# EAGLE library part 4X7SEGMENT (library Custom)
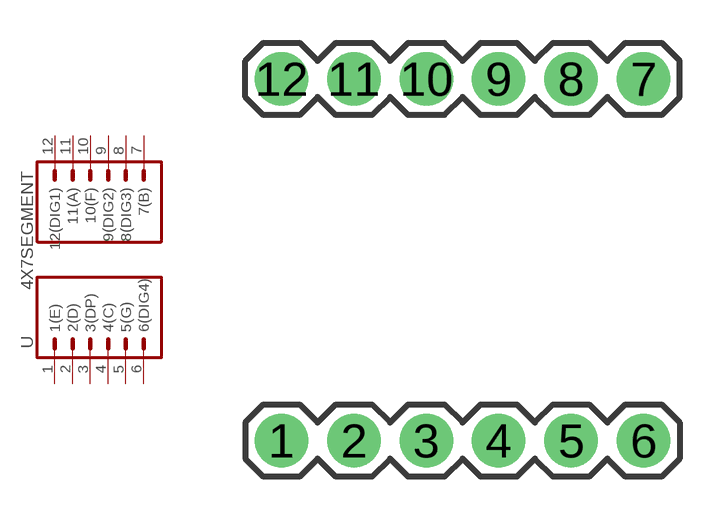
[diagram p1: symbol with the pads of 4X7SEGMENT; footprint 4X7SEGMENT]

Designator prefix -

## 4X7SEGMENT  [4X7SEGMENT]
1  1(E)  in
2  2(D)  in
3  3(DP)  in
4  4(C)  in
5  5(G)  in
6  6(DIG4)  in
7  7(B)  in
8  8(DIG3)  in
9  9(DIG2)  in
10  10(F)  in
11  11(A)  in
12  12(DIG1)  in

## Footprint 4X7SEGMENT (pad centres in mm)
drill 1.016 pad 1.88: 1 -6.35,0; 2 -3.81,0; 3 -1.27,0; 4 1.27,0; 5 3.81,0; 6 6.35,0; 7 6.35,12.7; 8 3.81,12.7; 9 1.27,12.7; 10 -1.27,12.7; 11 -3.81,12.7; 12 -6.35,12.7